# Altium schematic symbol library ESDCAN05-2BWY.SchLib: 1 symbol
Pins are listed as number, name and electrical type; pins without a type are passive.

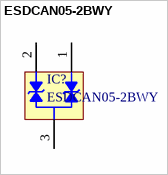
[diagram p0: symbol ESDCAN05-2BWY]

## ESDCAN05-2BWY
designator IC?
Automotive dual-line TVS in SOT323-3L for CAN bus
footprint SOT70P210X110-3N (SOT23, 3-Leads, Body 2.00x2.10mm, Pitch 0.70mm, IPC Medium Density)
pins: 1, 2, 3